# EAGLE library part PIC16F18346 (library joakim)
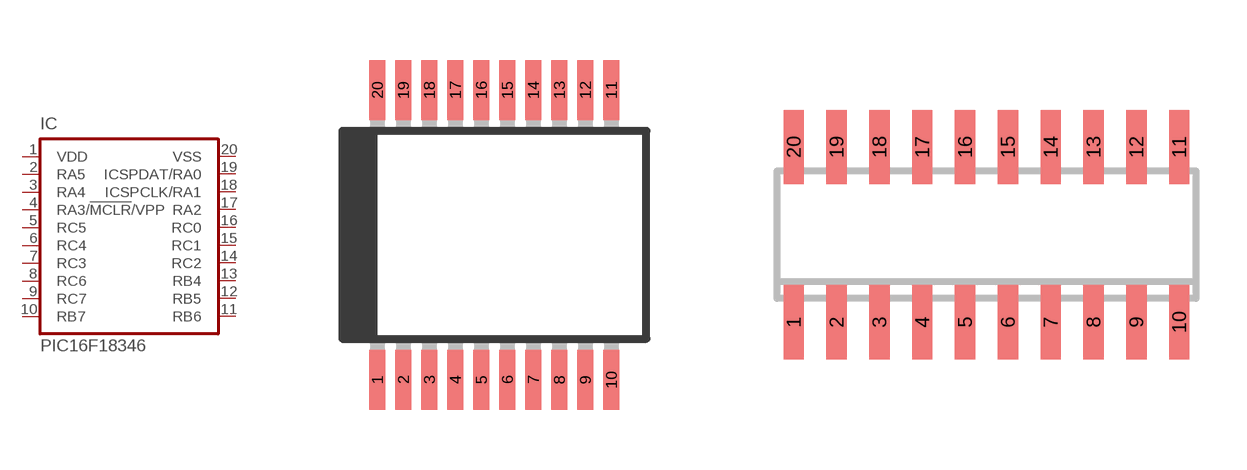
[diagram p49: symbol with the pads of SSOP20J; footprints SSOP20J, SO20J]

Designator prefix IC

## PIC16F18346SS  [SSOP20J]
1  VDD  pwr
2  RA5
3  RA4
4  RA3/!MCLR!/VPP
5  RC5
6  RC4
7  RC3
8  RC6
9  RC7
10  RB7
11  RB6
12  RB5
13  RB4
14  RC2
15  RC1
16  RC0
17  RA2
18  ICSPCLK/RA1
19  ICSPDAT/RA0
20  VSS  pwr

## PIC16F18346SO  [SO20J]
Pads as for SSOP20J

## PIC16F18346P  [DIL20J]
Pads as for SSOP20J

## Footprint SSOP20J (pad centres in mm)
smd 0.4 x 1.5: 1 -2.925,-3.625; 2 -2.275,-3.625; 3 -1.625,-3.625; 4 -0.975,-3.625; 5 -0.325,-3.625; 6 0.325,-3.625; 7 0.975,-3.625; 8 1.625,-3.625; 9 2.275,-3.625; 10 2.925,-3.625; 11 2.925,3.625; 12 2.275,3.625; 13 1.625,3.625; 14 0.975,3.625; 15 0.325,3.625; 16 -0.325,3.625; 17 -0.975,3.625; 18 -1.625,3.625; 19 -2.275,3.625; 20 -2.925,3.625

## Footprint SO20J (pad centres in mm)
smd 0.6 x 2.2: 1 -5.08,-2.6; 2 -3.81,-2.6; 3 -2.54,-2.6; 4 -1.27,-2.6; 5 0,-2.6; 6 1.27,-2.6; 7 2.54,-2.6; 8 3.81,-2.6; 9 5.08,-2.6; 10 6.35,-2.6; 11 6.35,2.6; 12 5.08,2.6; 13 3.81,2.6; 14 2.54,2.6; 15 1.27,2.6; 16 0,2.6; 17 -1.27,2.6; 18 -2.54,2.6; 19 -3.81,2.6; 20 -5.08,2.6

## Footprint DIL20J (pad centres in mm)
drill 0.813: 1 -11.43,-3.81; 2 -8.89,-3.81; 3 -6.35,-3.81; 4 -3.81,-3.81; 5 -1.27,-3.81; 6 1.27,-3.81; 7 3.81,-3.81; 8 6.35,-3.81; 9 8.89,-3.81; 10 11.43,-3.81; 11 11.43,3.81; 12 8.89,3.81; 13 6.35,3.81; 14 3.81,3.81; 15 1.27,3.81; 16 -1.27,3.81; 17 -3.81,3.81; 18 -6.35,3.81; 19 -8.89,3.81; 20 -11.43,3.81